# EAGLE library part 7-SEGMENT-ARRAY4 (library bytewerk-led)
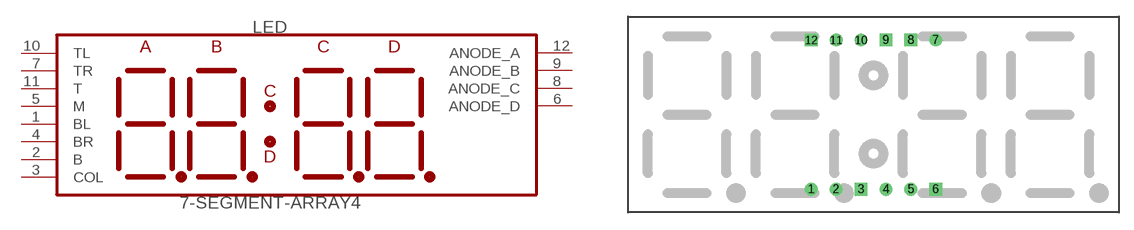
[diagram p3: symbol with the pads of LG5643DH-7-SEGMENT-ARRAY; footprint LG5643DH-7-SEGMENT-ARRAY]

Designator prefix LED

## 7-SEGMENT-ARRAY4  [LG5643DH-7-SEGMENT-ARRAY]
1  BL  in
2  B  in
3  COL  in
4  BR  in
5  M  in
6  ANODE_D  in
7  TR  in
8  ANODE_C  in
9  ANODE_B  in
10  TL  in
11  T  in
12  ANODE_A  in

## Footprint LG5643DH-7-SEGMENT-ARRAY (pad centres in mm)
drill 0.8: 1 -6.35,-7.62; 2 -3.81,-7.62; 4 1.27,-7.62; 5 3.81,-7.62; 7 6.35,7.62; 10 -1.27,7.62; 11 -3.81,7.62
drill 0.8 square: 3 -1.27,-7.62; 6 6.35,-7.62; 8 3.81,7.62; 9 1.27,7.62; 12 -6.35,7.62